# Altium schematic symbol library ECS-TXO-25CSMV-320-AM-TR.SchLib: 1 symbol
Pins are listed as number, name and electrical type; pins without a type are passive.

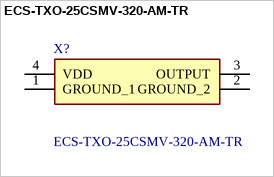
[diagram p0: symbol ECS-TXO-25CSMV-320-AM-TR]

## ECS-TXO-25CSMV-320-AM-TR
designator X?
TCXO Oscillators 32MHz 0.5ppm 1.7V to 3.465V; Manufacturer_Name: ECS; Geometry.Height: 1mm; Mouser Part Number: 520-TXO25CSMV320AMTR; Mouser Price/Stock: https://www.mouser.co.uk/ProductDetail/ECS/ECS-TXO-25CSMV-320-AM-TR?qs=wnTfsH77Xs7GjCu67eLygA%3D%3D; Manufacturer_Part_Number: ECS-TXO-25CSMV-320-AM-TR; Datasheet Link: https://ecsxtal.com/store/pdf/ECS-TXO-25CSMV.pdf
footprint ECSTXO25CSMV320AMTR
pins: 1 GROUND_1, 2 GROUND_2, 3 OUTPUT, 4 VDD